# Altium footprint library RC2012F102CS.PcbLib: 4 footprints
Each footprint in its own frame and in the unit in brackets; x right, y up, seen from the top. Pads: shape width x height; smd on the part's side, far side on the other; paste and mask are expansions set on the pad; w line width, h text height; cw(c..) or ccw(c..) is an arc to the next point about the centre after c.
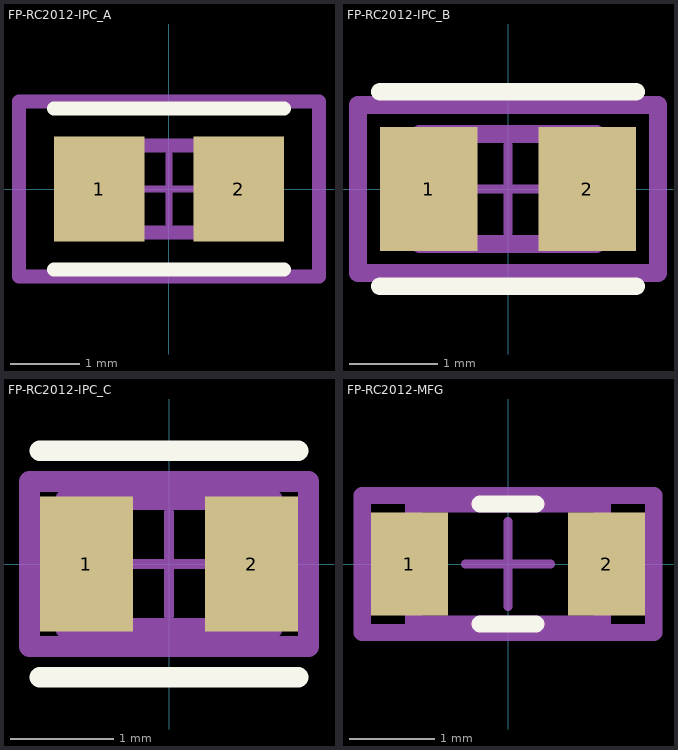
[diagram p0: the footprints below, top view; thin cyan lines are the x and y axes]

## FP-RC2012-IPC_A [mm]
pads (2):
  rect 1.305x1.508 smd paste+0 mask+0: 1(-1.001,0) 2(1.001,0)
Top Overlay:
  lines w0.2: -1.653,-1.154 1.653,-1.154 ; -1.653,1.154 1.653,1.154
Top Assembly:
  lines w0.2: -2.153,-1.254 2.153,-1.254 2.153,1.254 -2.153,1.254 -2.153,-1.254
  text ".Designator" at 0,0.188 h1
Top 3D Body:
  lines w0.2: -1,-0.625 1,-0.625 1,0.625 -1,0.625 -1,-0.625
Top Courtyard:
  lines w0.2: -2.153,-1.254 2.153,-1.254 2.153,1.254 -2.153,1.254 -2.153,-1.254
Top Component Center:
  lines w0.1: -0.5,0 0.5,0 ; 0,-0.5 0,0.5
3D body "Res_Samsung_RC2012F333CS_eec.STEP": height 0.25, standoff 0, extent -2.153,-1.254 2.153,1.254

## FP-RC2012-IPC_B [mil]
pads (2):
  rect 43.5x55.44 smd paste+0 mask+0: 1(-35.46,0) 2(35.46,0)
Top Overlay:
  lines w7.87: -57.21,-43.47 57.21,-43.47 ; -57.21,43.47 57.21,43.47
Top Assembly:
  lines w7.87: -67.05,-37.56 67.05,-37.56 67.05,37.56 -67.05,37.56 -67.05,-37.56
  text ".Designator" at 0,7.39 h39.37
Top 3D Body:
  lines w7.87: -39.37,-24.61 39.37,-24.61 39.37,24.61 -39.37,24.61 -39.37,-24.61
Top Courtyard:
  lines w7.87: -67.05,-37.56 67.05,-37.56 67.05,37.56 -67.05,37.56 -67.05,-37.56
Top Component Center:
  lines w3.94: -19.68,0 19.68,0 ; 0,-19.68 0,19.68
3D body "Res_Samsung_RC2012F333CS_eec.STEP": height 10, standoff 0, extent -67.05,-37.56 67.05,37.56

## FP-RC2012-IPC_C [mm]
pads (2):
  rect 0.905x1.308 smd paste+0 mask+0: 1(-0.801,0) 2(0.801,0)
Top Overlay:
  lines w0.2: -1.253,-1.1 1.253,-1.1 ; -1.253,1.1 1.253,1.1
Top Assembly:
  lines w0.2: -1.353,-0.8 1.353,-0.8 1.353,0.8 -1.353,0.8 -1.353,-0.8
  text ".Designator" at 0,0.188 h1
Top 3D Body:
  lines w0.2: -1,-0.625 1,-0.625 1,0.625 -1,0.625 -1,-0.625
Top Courtyard:
  lines w0.2: -1.353,-0.8 1.353,-0.8 1.353,0.8 -1.353,0.8 -1.353,-0.8
Top Component Center:
  lines w0.1: -0.5,0 0.5,0 ; 0,-0.5 0,0.5
3D body "Res_Samsung_RC2012F333CS_eec.STEP": height 0.25, standoff 0, extent -1.353,-0.8 1.353,0.8

## FP-RC2012-MFG [mm]
pads (2):
  rect 0.9x1.2 smd paste+0 mask+0: 1(-1.15,0) 2(1.15,0)
Top Overlay:
  lines w0.2: -0.325,-0.7 0.325,-0.7 ; -0.325,0.7 0.325,0.7
Top Assembly:
  lines w0.2: -1.7,-0.8 1.7,-0.8 1.7,0.8 -1.7,0.8 -1.7,-0.8
  text ".Designator" at 0,0.188 h1
Top 3D Body:
  lines w0.2: -1.1,-0.7 1.1,-0.7 1.1,0.7 -1.1,0.7 -1.1,-0.7
Top Courtyard:
  lines w0.2: -1.7,-0.8 1.7,-0.8 1.7,0.8 -1.7,0.8 -1.7,-0.8
Top Component Center:
  lines w0.1: -0.5,0 0.5,0 ; 0,-0.5 0,0.5
3D body "Res_Samsung_RC2012F333CS_eec.STEP": height 0.25, standoff 0, extent -1.7,-0.8 1.7,0.8